# EAGLE library part 7SEG-MCK (library special (1))
7-segment DISPLAY single cathode, 13 mm
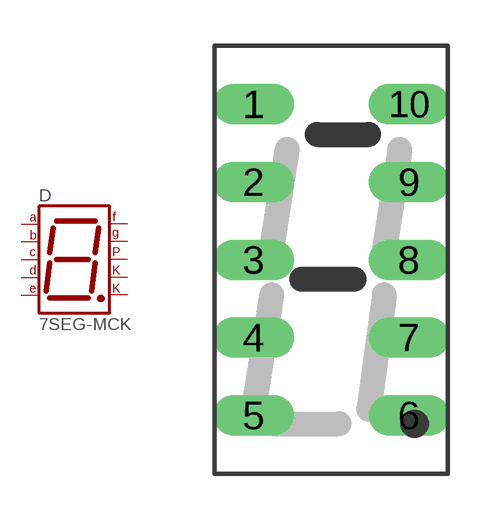
[diagram p13: symbol with the pads of 7SEG-7; footprint 7SEG-7]

Designator prefix D

## 7SEG-MCK  [7SEG-7]
1  CK1  pas
2  F  pas
3  G  pas
4  E  pas
5  D  pas
6  CK2  pas
7  DP  pas
8  C  pas
9  B  pas
10  A  pas

## Footprint 7SEG-7 (pad centres in mm)
7-segment DISPLAY 10 mm
drill 0.813 long: 1 -2.54,5.08; 2 -2.54,2.54; 3 -2.54,0; 4 -2.54,-2.54; 5 -2.54,-5.08; 6 2.54,-5.08; 7 2.54,-2.54; 8 2.54,0; 9 2.54,2.54; 10 2.54,5.08